# EAGLE library part LSF0108PWR (library bw_motor_driver)
TI LFS0108PWR 8-channel level shifter
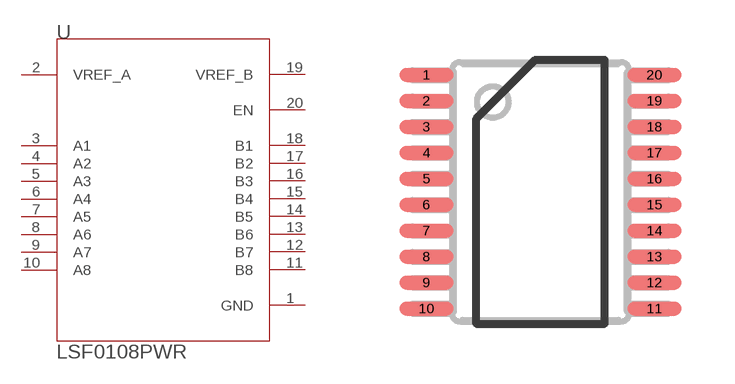
[diagram p2: symbol with the pads of PW0020A; footprint PW0020A]

Designator prefix U

## LSF0108PWR  [PW0020A]
1  GND  pwr
2  VREF_A  pwr
3  A1
4  A2
5  A3
6  A4
7  A5
8  A6
9  A7
10  A8
11  B8
12  B7
13  B6
14  B5
15  B4
16  B3
17  B2
18  B1
19  VREF_B  pwr
20  EN  in

## Footprint PW0020A (pad centres in mm)
smd 1.35 x 0.35: 1 -2.85,2.925; 2 -2.85,2.275; 3 -2.85,1.625; 4 -2.85,0.975; 5 -2.85,0.325; 6 -2.85,-0.325; 7 -2.85,-0.975; 8 -2.85,-1.625; 9 -2.85,-2.275; 10 -2.85,-2.925; 11 2.85,-2.925; 12 2.85,-2.275; 13 2.85,-1.625; 14 2.85,-0.975; 15 2.85,-0.325; 16 2.85,0.325; 17 2.85,0.975; 18 2.85,1.625; 19 2.85,2.275; 20 2.85,2.925